# EAGLE library part SO14_DEV (library IC_Generate)
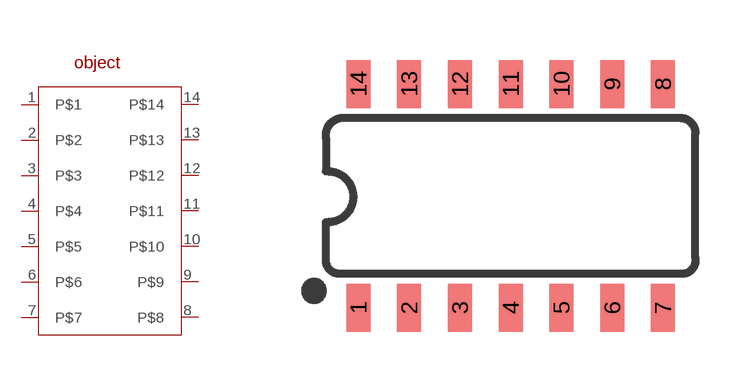
[diagram p4: symbol with the pads of SO14; footprint SO14]

Designator prefix -

## SO14_DEV  [SO14]
1  P$1  pas
2  P$2  pas
3  P$3  pas
4  P$4  pas
5  P$5  pas
6  P$6  pas
7  P$7  pas
8  P$8  pas
9  P$9  pas
10  P$10  pas
11  P$11  pas
12  P$12  pas
13  P$13  pas
14  P$14  pas

## Footprint SO14 (pad centres in mm)
SOIC, 0.15 inch width
smd 0.6 x 1.2: 1 -4.445,-2.8; 2 -3.175,-2.8; 3 -1.905,-2.8; 4 -0.635,-2.8; 5 0.635,-2.8; 6 1.905,-2.8; 7 3.175,-2.8; 8 3.175,2.8; 9 1.905,2.8; 10 0.635,2.8; 11 -0.635,2.8; 12 -1.905,2.8; 13 -3.175,2.8; 14 -4.445,2.8